# Altium integrated library IC.IntLib: 15 symbols
Pins are listed as number, name and electrical type; pins without a type are passive.

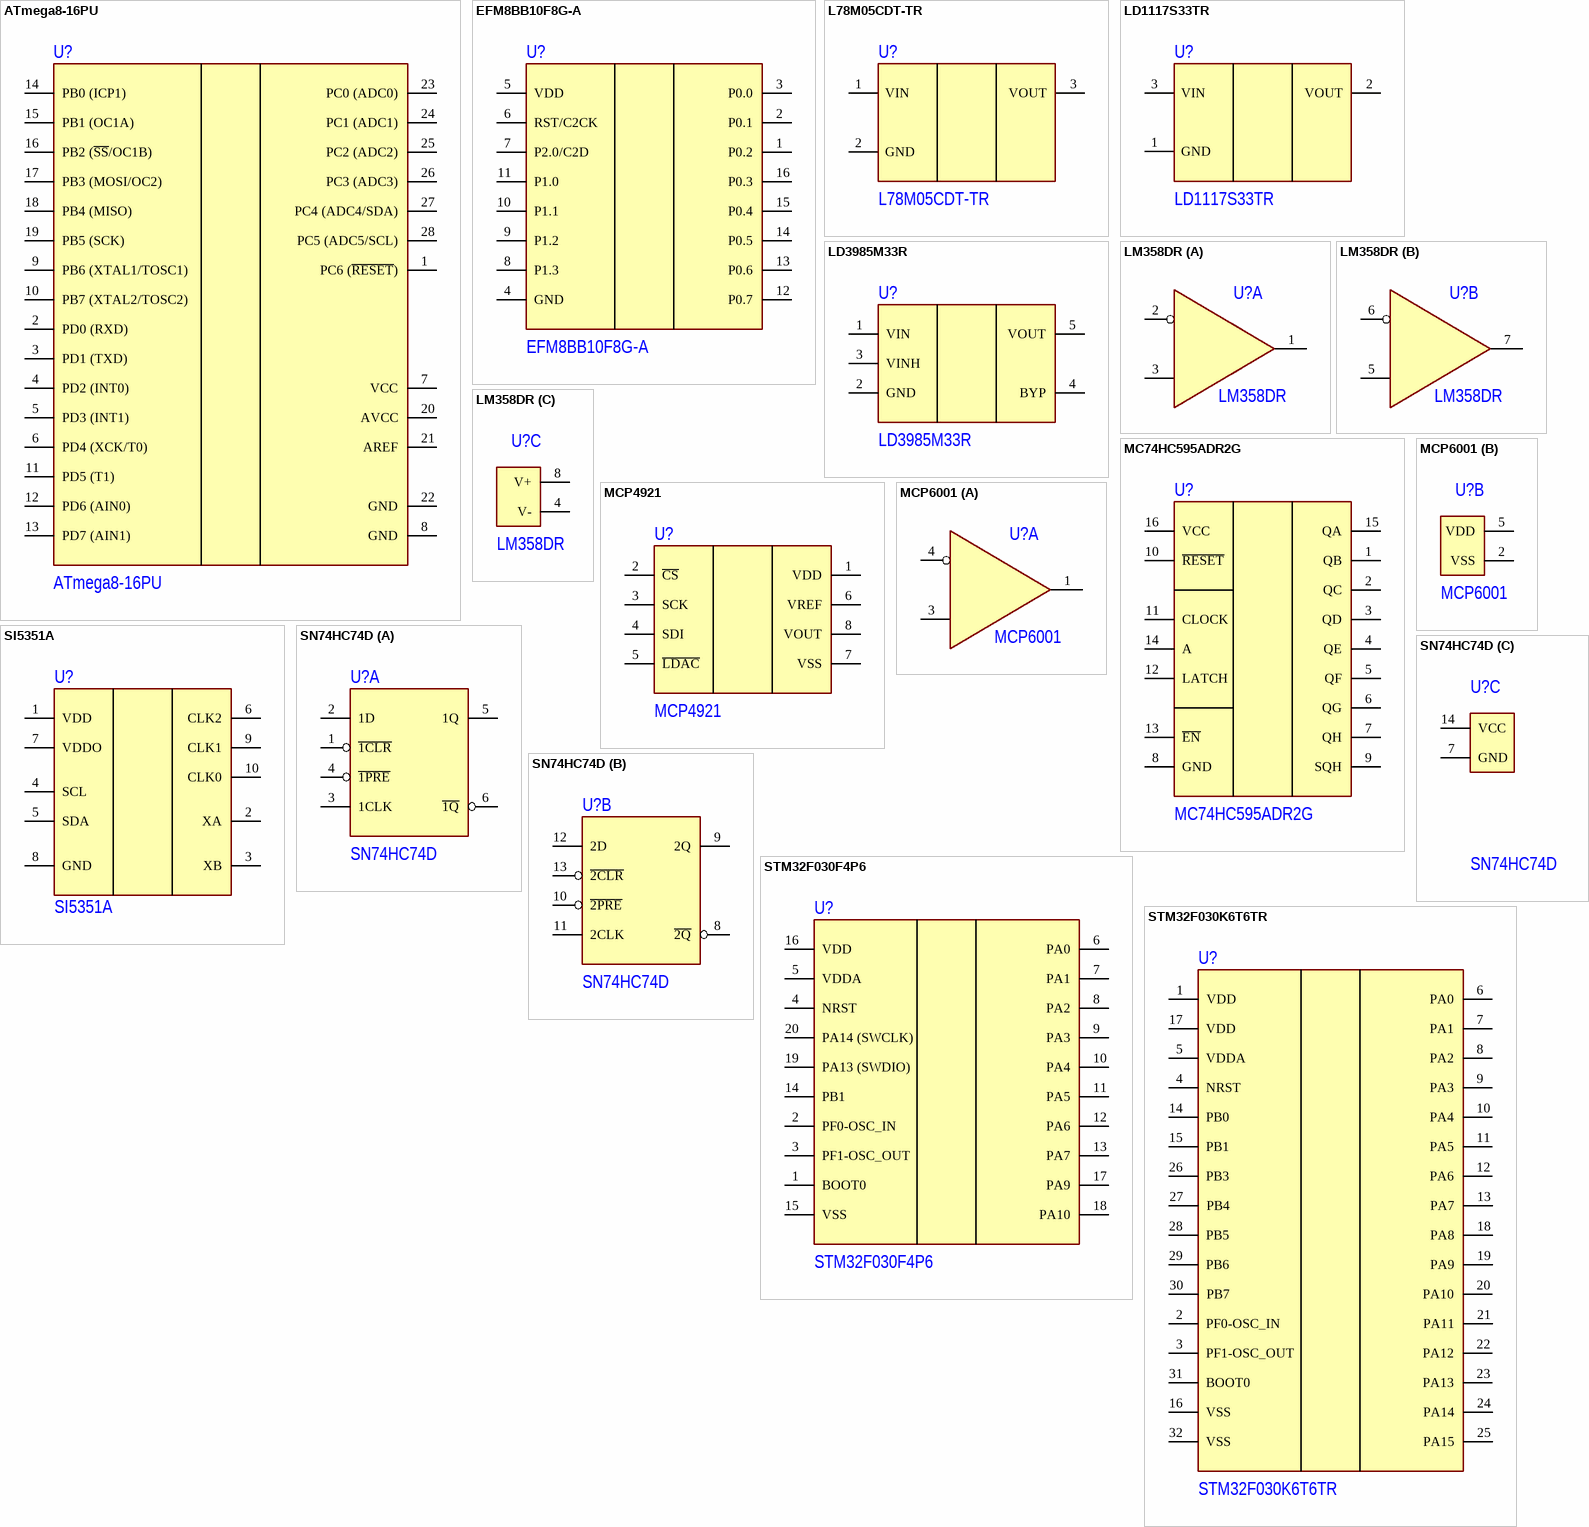
[diagram p0: symbols ATmega8-16PU to STM32F030K6T6TR]

## ATmega8-16PU
designator U?
IC MCU 8BIT, 4.5-5.5V, 16MHz, 8KB Flash, 512 Bytes EEPROM, 1KB SRAM, 28-pin PDIP, Industrial Grade (-40°C to 85°C); Manufacturer: Atmel; Note: DIP-28; PartNumber: ATmega8-16PU
footprint 28-DIP (28-Pin Plastic Dual In-Line Package (PDIP))
pins: 1 PC6 (~{RESET}), 2 PD0 (RXD), 3 PD1 (TXD), 4 PD2 (INT0), 5 PD3 (INT1), 6 PD4 (XCK/T0), 7 VCC (power), 8 GND (power), 9 PB6 (XTAL1/TOSC1), 10 PB7 (XTAL2/TOSC2), 11 PD5 (T1), 12 PD6 (AIN0), 13 PD7 (AIN1), 14 PB0 (ICP1), 15 PB1 (OC1A), 16 PB2 (~{SS}/OC1B), 17 PB3 (MOSI/OC2), 18 PB4 (MISO), 19 PB5 (SCK), 20 AVCC (power), 21 AREF, 22 GND (power), 23 PC0 (ADC0), 24 PC1 (ADC1), 25 PC2 (ADC2), 26 PC3 (ADC3), 27 PC4 (ADC4/SDA), 28 PC5 (ADC5/SCL)

## EFM8BB10F8G-A
designator U?
IC MCU 8BIT 8KB FLASH SOIC-16; Manufacturer: Silicon Labs; PartNumber: EFM8BB10F8G-A; Note: SOIC-16
footprint 16-SOIC
pins: 1 P0.2, 2 P0.1, 3 P0.0, 4 GND, 5 VDD, 6 RST/C2CK, 7 P2.0/C2D, 8 P1.3, 9 P1.2, 10 P1.1, 11 P1.0, 12 P0.7, 13 P0.6, 14 P0.5, 15 P0.4, 16 P0.3

## L78M05CDT-TR
designator U?
IC REG LINEAR 5V 500MA DPAK; Manufacturer: STMicroelectronics; PartNumber: L78M05CDT-TR; Note: DPAK
footprint DPAK
pins: 1 VIN, 2 GND, 3 VOUT

## LD1117S33TR
designator U?
IC REG LINEAR 3.3V 800MA SOT223; Manufacturer: STMicroelectronics; Note: SOT-223; PartNumber: LD1117S33TR
footprint SOT223
pins: 1 GND, 2 VOUT, 3 VIN

## LD3985M33R
designator U?
IC REG LINEAR 3.3V 150MA SOT23-5; Manufacturer: STMicroelectronics; PartNumber: LD3985M33R; Note: SOT23-5
footprint SOT23-5
pins: 1 VIN, 2 GND, 3 VINH, 4 BYP, 5 VOUT

## LM358DR
designator U?
IC OPAMP GP 2 CIRCUIT SOIC-8; Manufacturer: Texas Instruments; PartNumber: LM358DR; Note: SOIC-8
footprint 8-SOIC
part A pins: 1 OUT A  , 2, 3
part B pins: 5, 6, 7 OUT B  
part C pins: 4 V-, 8 V+

## MC74HC595ADR2G
designator U?
IC SHIFT REGISTR 8BIT 3ST SOIC-16; Manufacturer: ON Semiconductor; PartNumber: MC74HC595ADR2G; Note: SOIC-16
footprint 16-SOIC
pins: 1 QB, 2 QC, 3 QD, 4 QE, 5 QF, 6 QG, 7 QH, 8 GND, 9 SQH, 10 ~{RESET}, 11 CLOCK, 12 LATCH, 13 ~{EN}, 14 A, 15 QA, 16 VCC

## MCP4921
designator U?
12 BIT DAC  SPI; Manufacturer: Microchip; Note: SOIC-8; PartNumber: MCP4921
footprint 8-SOIC
pins: 1 VDD, 2 ~{CS}, 3 SCK, 4 SDI, 5 ~{LDAC}, 6 VREF, 7 VSS, 8 VOUT

## MCP6001
designator U?
IC OPAMP GP 1 CIRCUIT SOT23-5; PartNumber: MCP6001UT-I/OT; Manufacturer: Microchip Technology; Note: SOT-23-5
footprint SOT23-5
part A pins: 1 OUT, 3, 4
part B pins: 2 VSS, 5 VDD

## SI5351A
designator U?
IC CLK GENERATOR 200MHZ MSOP-10; PartNumber: SI5351A-B-GTR; Manufacturer: Silicon Labs; Note: MSOP-10
footprint MSOP-10
pins: 1 VDD , 2 XA, 3 XB, 4 SCL, 5 SDA, 6 CLK2, 7 VDDO, 8 GND, 9 CLK1, 10 CLK0

## SN74HC74D
designator U?
IC FF D-TYPE DUAL 1BIT SOIC-14; Manufacturer: Texas  Instruments; PartNumber: SN74HC74D; Note: SOIC-14
footprint 14-SOIC
part A pins: 1 ~{1CLR}, 2 1D, 3 1CLK, 4 ~{1PRE}, 5 1Q, 6 ~{1Q}
part B pins: 8 ~{2Q}, 9 2Q, 10 ~{2PRE}, 11 2CLK, 12 2D, 13 ~{2CLR}
part C pins: 7 GND, 14 VCC

## STM32F030F4P6
designator U?
IC MCU 32BIT 16KB FLASH TSSOP-20; Manufacturer: STMicroelectronics; Note: TSSOP-20; PartNumber: STM32F030F4P6
footprint 20-TSSOP
pins: 1 BOOT0, 2 PF0-OSC_IN, 3 PF1-OSC_OUT, 4 NRST, 5 VDDA, 6 PA0, 7 PA1, 8 PA2, 9 PA3, 10 PA4, 11 PA5, 12 PA6, 13 PA7, 14 PB1, 15 VSS, 16 VDD, 17 PA9, 18 PA10, 19 PA13 (SWDIO), 20 PA14 (SWCLK)

## STM32F030K6T6TR
designator U?
IC MCU 32BIT 32KB FLASH LQFP-32; Manufacturer: STMicroelectronics; PartNumber: STM32F030K6T6TR; Note: LQFP-32
footprint 32-LQFP
pins: 1 VDD, 2 PF0-OSC_IN, 3 PF1-OSC_OUT, 4 NRST, 5 VDDA, 6 PA0, 7 PA1, 8 PA2, 9 PA3, 10 PA4, 11 PA5, 12 PA6, 13 PA7, 14 PB0, 15 PB1, 16 VSS, 17 VDD, 18 PA8, 19 PA9, 20 PA10, 21 PA11, 22 PA12, 23 PA13, 24 PA14, 25 PA15, 26 PB3, 27 PB4, 28 PB5, 29 PB6, 30 PB7, 31 BOOT0, 32 VSS

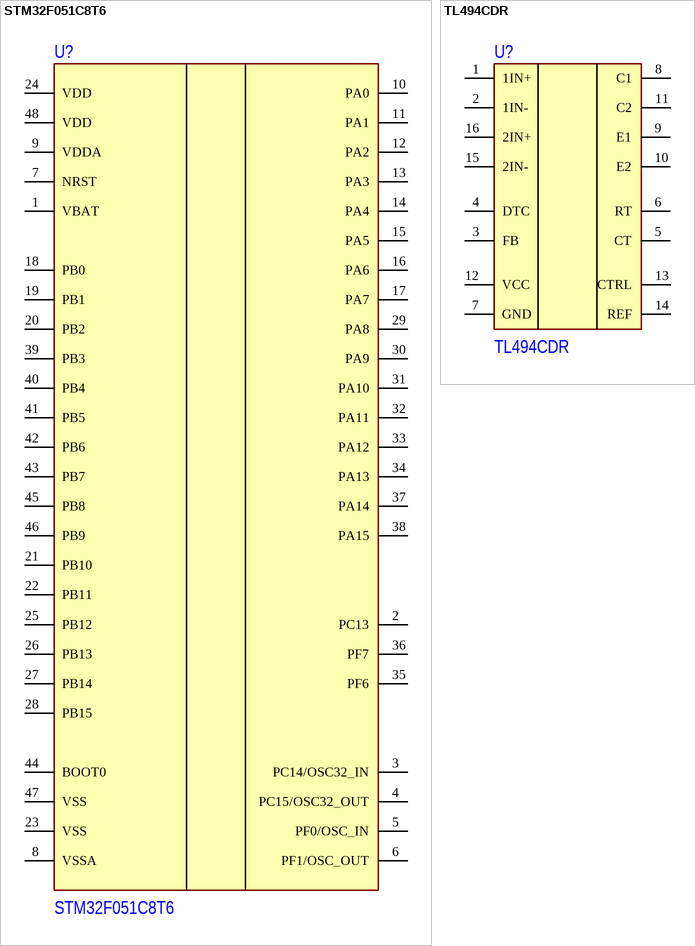
[diagram p1: symbols STM32F051C8T6 to TL494CDR]

## STM32F051C8T6
designator U?
IC MCU 32BIT 64KB FLASH LQFP-48; Manufacturer: STMicroelectronics; PartNumber: STM32F051C8T6; Note: LQFP-48
footprint 48-LQFP
pins: 1 VBAT, 2 PC13, 3 PC14/OSC32_IN, 4 PC15/OSC32_OUT, 5 PF0/OSC_IN, 6 PF1/OSC_OUT, 7 NRST, 8 VSSA (power), 9 VDDA (power), 10 PA0, 11 PA1, 12 PA2, 13 PA3, 14 PA4, 15 PA5, 16 PA6, 17 PA7, 18 PB0, 19 PB1, 20 PB2, 21 PB10, 22 PB11, 23 VSS (power), 24 VDD (power), 25 PB12, 26 PB13, 27 PB14, 28 PB15, 29 PA8, 30 PA9, 31 PA10, 32 PA11, 33 PA12, 34 PA13, 35 PF6, 36 PF7, 37 PA14, 38 PA15, 39 PB3, 40 PB4, 41 PB5, 42 PB6, 43 PB7, 44 BOOT0, 45 PB8, 46 PB9, 47 VSS (power), 48 VDD (power)

## TL494CDR
designator U?
IC REG CTRLR MULT TOP SOIC-16; Manufacturer: Texas Instruments; PartNumber: TL494CDR; Note: SOIC-16
footprint 16-SOIC
pins: 1 1IN+, 2 1IN-, 3 FB, 4 DTC, 5 CT, 6 RT, 7 GND, 8 C1, 9 E1, 10 E2, 11 C2, 12 VCC, 13 CTRL, 14 REF, 15 2IN-, 16 2IN+